# EAGLE library part LPC11U35 (library heck)
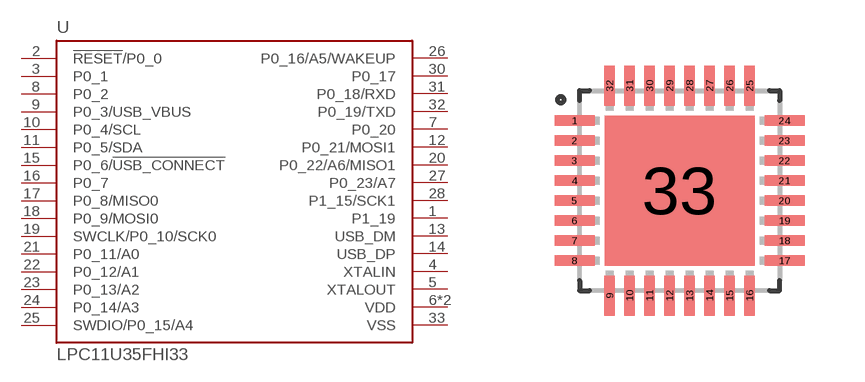
[diagram p21: symbol with the pads of QFN33; footprint QFN33]

Designator prefix U

## LPC11U35FHI33  [QFN33]
1  P1_19
2  !RESET!/P0_0
3  P0_1
4  XTALIN
5  XTALOUT
6  VDD  pwr
7  P0_20
8  P0_2
9  P0_3/USB_VBUS
10  P0_4/SCL
11  P0_5/SDA
12  P0_21/MOSI1
13  USB_DM
14  USB_DP
15  P0_6/!USB_CONNECT!
16  P0_7
17  P0_8/MISO0
18  P0_9/MOSI0
19  SWCLK/P0_10/SCK0
20  P0_22/A6/MISO1
21  P0_11/A0
22  P0_12/A1
23  P0_13/A2
24  P0_14/A3
25  SWDIO/P0_15/A4
26  P0_16/A5/WAKEUP
27  P0_23/A7
28  P1_15/SCK1
29  VDD  pwr
30  P0_17
31  P0_18/RXD
32  P0_19/TXD
33  VSS  pwr

## Footprint QFN33 (pad centres in mm)
smd 1 x 0.27: 1 -2.625,1.75; 2 -2.625,1.25; 3 -2.625,0.75; 4 -2.625,0.25; 5 -2.625,-0.25; 6 -2.625,-0.75; 7 -2.625,-1.25; 8 -2.625,-1.75; 17 2.625,-1.75; 18 2.625,-1.25; 19 2.625,-0.75; 20 2.625,-0.25; 21 2.625,0.25; 22 2.625,0.75; 23 2.625,1.25; 24 2.625,1.75
smd 0.27 x 1: 9 -1.75,-2.625; 10 -1.25,-2.625; 11 -0.75,-2.625; 12 -0.25,-2.625; 13 0.25,-2.625; 14 0.75,-2.625; 15 1.25,-2.625; 16 1.75,-2.625; 25 1.75,2.625; 26 1.25,2.625; 27 0.75,2.625; 28 0.25,2.625; 29 -0.25,2.625; 30 -0.75,2.625; 31 -1.25,2.625; 32 -1.75,2.625
smd 3.75 x 3.75: 33 0,0